# Altium footprint library Moskalenko.PcbLib: 4 footprints
Each footprint in its own frame and in the unit in brackets; x right, y up, seen from the top. Pads: shape width x height; smd on the part's side, far side on the other; paste and mask are expansions set on the pad; w line width, h text height; cw(c..) or ccw(c..) is an arc to the next point about the centre after c.
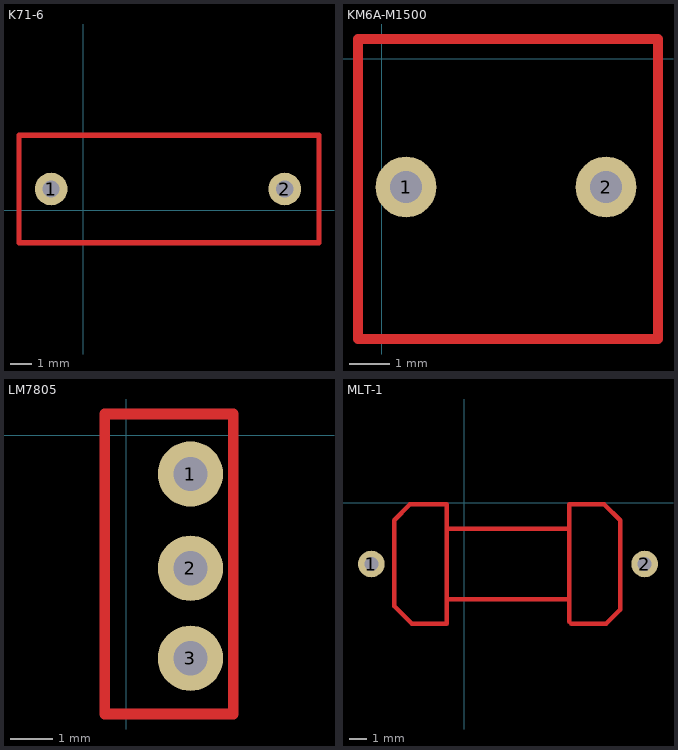
[diagram p0: the footprints below, top view; thin cyan lines are the x and y axes]

## K71-6 [mm]
pads (2):
  round 1.524 hole 0.8: 1(-1.5,1) 2(9.4,1)
Top Layer:
  lines w0.254: -3,-1.5 11,-1.5 11,3.5 -3,3.5 -3,-1.4
  text "K71-6" at 2.8,0.5 h1.52

## KM6A-M1500 [mm]
pads (2):
  round 1.524 hole 0.8: 1(0.6,-3.2) 2(5.6,-3.2)
Top Layer:
  lines w0.254: -0.6,-7 6.9,-7 6.9,0.5 -0.6,0.5 -0.6,-7
  text "KM6A-M1500" at -0.1,-1.8 h1.52

## LM7805 [mm]
pads (3):
  round 1.524 hole 0.8: 1(1.5,-0.9) 2(1.5,-3.1) 3(1.5,-5.2)
Top Layer:
  lines w0.254: -0.5,-6.5 -0.5,0.5 2.5,0.5 2.5,-6.5 -0.5,-6.5
  text "LM7805" at -0.3,-1.4 h1.52

## MLT-1 [mm]
pads (2):
  round 1.524 hole 0.8: 1(-5.3,-3.5) 2(10.3,-3.5)
Top Layer:
  lines w0.254: -1,-5.5 6,-5.5 ; -1,-1.5 6,-1.5 ; 6,-6.8 6,-0.1 8,-0.1 8.9,-1 8.9,-6.1 8.1,-6.9 8,-6.9 6.1,-6.9 ; -4,-5.9 -4,-1 -3.1,-0.1 -1,-0.1 -1,-6.9 -3,-6.9 -4,-5.9
  text "MLT-1" at 1,-4.1 h1.52